# EAGLE library part CON_01X32 (library MF_Connectors)
Library: MF_Connectors Description: Header Connector with 32 Positions and 01 Rows. Use the LABEL Attribute to label the pin on the schematic and PCB. You can remove the attributes on the PCB by using the SMASH function on the part and then deleting the text.
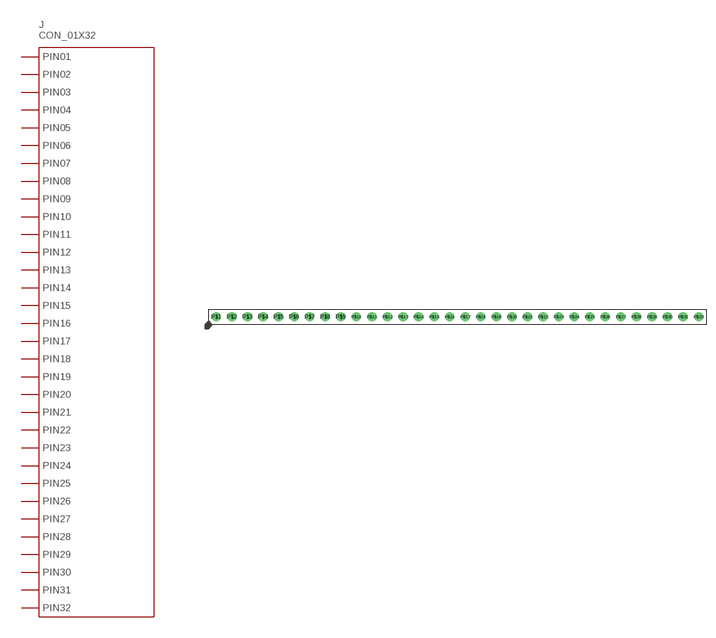
[diagram p29: symbol with the pads of PTH_2.54MM_01X32; footprint PTH_2.54MM_01X32]

Designator prefix J

## CON_01X32_PTH_2.54MM (HOUSEPART: YES; MPN: MF-CON-2.54mm-01x32; POPULATE: 1; URL: https://factory.macrofab.com/part/MF-CON-2.54mm-01x32; VALUE: MF-CON-2.54mm-01x32)  [PTH_2.54MM_01X32]
P$1  PIN1
P$2  PIN2
P$3  PIN3
P$4  PIN4
P$5  PIN5
P$6  PIN6
P$7  PIN7
P$8  PIN8
P$9  PIN9
P$10  PIN10
P$11  PIN11
P$12  PIN12
P$13  PIN13
P$14  PIN14
P$15  PIN15
P$16  PIN16
P$17  PIN17
P$18  PIN18
P$19  PIN19
P$20  PIN20
P$21  PIN21
P$22  PIN22
P$23  PIN23
P$24  PIN24
P$25  PIN25
P$26  PIN26
P$27  PIN27
P$28  PIN28
P$29  PIN29
P$30  PIN30
P$31  PIN31
P$32  PIN32

## Footprint PTH_2.54MM_01X32 (pad centres in mm)
Description: Package for 2.54MM Pitch Header 32 Position. Based on 4UCON 00834.
drill 1: P$1 -39.37,0; P$2 -36.83,0; P$3 -34.29,0; P$4 -31.75,0; P$5 -29.21,0; P$6 -26.67,0; P$7 -24.13,0; P$8 -21.59,0; P$9 -19.05,0; P$10 -16.51,0; P$11 -13.97,0; P$12 -11.43,0; P$13 -8.89,0; P$14 -6.35,0; P$15 -3.81,0; P$16 -1.27,0; P$17 1.27,0; P$18 3.81,0; P$19 6.35,0; P$20 8.89,0; P$21 11.43,0; P$22 13.97,0; P$23 16.51,0; P$24 19.05,0; P$25 21.59,0; P$26 24.13,0; P$27 26.67,0; P$28 29.21,0; P$29 31.75,0; P$30 34.29,0; P$31 36.83,0; P$32 39.37,0